# Altium footprint library Transformator.PcbLib: 59 footprints (part 4 of 4)
Each footprint in its own frame and in the unit in brackets; x right, y up, seen from the top. Pads: shape width x height; smd on the part's side, far side on the other; paste and mask are expansions set on the pad; w line width, h text height; cw(c..) or ccw(c..) is an arc to the next point about the centre after c.
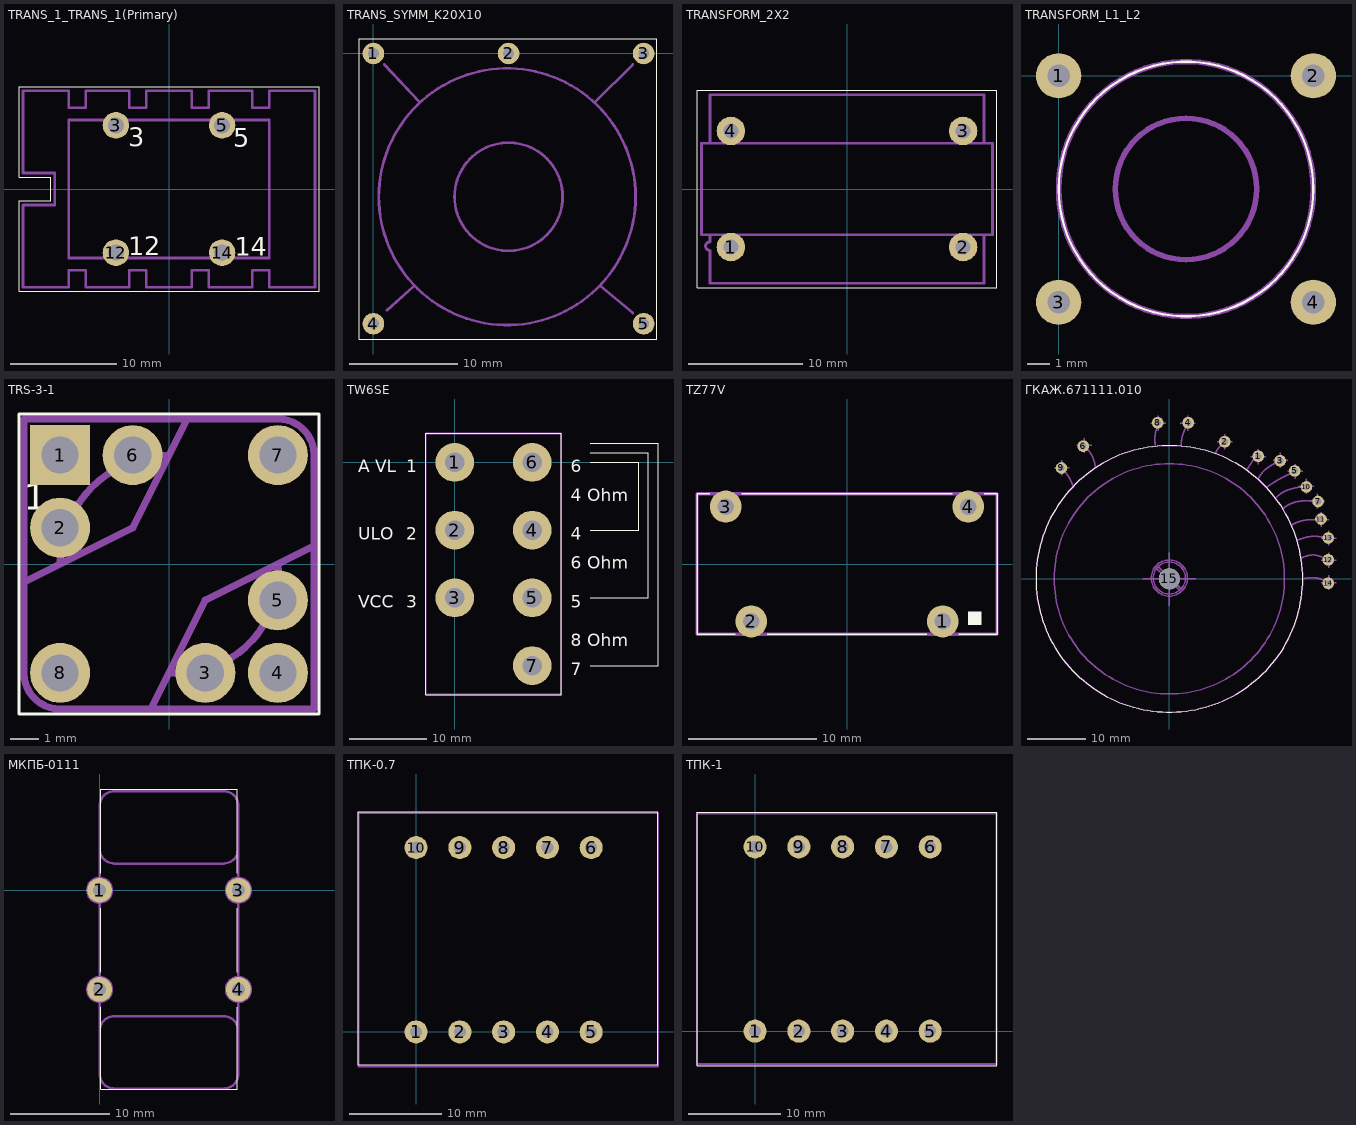
[diagram p3: the footprints below, top view; thin cyan lines are the x and y axes]

## TRANS_1_TRANS_1(Primary) [mm]
pads (4):
  round 2.5 hole 1.5: 3(-5,6) 5(5,6) 12(-5,-6) 14(5,-6)
Top Overlay:
  lines w0.1: -14.13,-9.63 14.13,-9.63 14.13,9.63 -14.13,9.63 -14.13,1.12 -11.13,1.12 -11.13,-1.12 -14.13,-1.12 -14.13,-9.63
  text "14" at 6.18,-6.3 h1.76
  text "12" at -3.83,-6.24 h1.76
  text "5" at 6.06,4 h1.76
  text "3" at -3.83,4.03 h1.76
Mechanical 1:
  lines w0.25: -13.75,-9.25 -13.75,-1.5 -10.75,-1.5 -10.75,1.5 -13.75,1.5 -13.75,9.25 -9.45,9.25 -9.45,7.65 -7.85,7.65 -7.85,9.25 -3.75,9.25 -3.75,7.65 -2.15,7.65 -2.15,9.25 2.15,9.25 2.15,7.65 3.75,7.65 3.75,9.25 7.85,9.25 7.85,7.65 9.45,7.65 9.45,9.25 13.75,9.25 13.75,-9.25 9.45,-9.25 9.45,-7.65 7.85,-7.65 7.85,-9.25 3.75,-9.25 3.75,-7.65 2.15,-7.65 2.15,-9.25 -2.15,-9.25 -2.15,-7.65 -3.75,-7.65 -3.75,-9.25 -7.85,-9.25 -7.85,-7.65 -9.45,-7.65 -9.45,-9.25 -13.75,-9.25 ; -9.45,-6.5 9.45,-6.5 9.45,6.5 -9.45,6.5 -9.45,-6.5

## TRANS_SYMM_K20X10 [mm]
pads (5):
  round 2 hole 1: 1(0,0) 2(12.5,0) 3(25,0) 4(0,-25) 5(25,-25)
Top Overlay:
  lines w0.1: -1.3,-26.41 26.2,-26.41 26.2,1.34 -1.3,1.34 -1.3,-26.41
Mechanical 1:
  lines w0.25: 1,-1 4.25,-4.5 ; 1.25,-23.75 3.75,-21.5 ; 20.5,-4.5 24,-1 ; 21,-21.5 24,-24 ; 0.5,-13.25 cw(c12.375,-13.25) 24.25,-13.25 cw(c12.375,-13.25) 0.5,-13.25 ; 7.5,-13.25 ccw(c12.5,-13.25) 17.5,-13.25 ccw(c12.5,-13.25) 7.5,-13.25

## TRANSFORM_2X2 [mm]
pads (4):
  round 2.5 hole 1.3: 1(-10.16,-5.08) 2(10.16,-5.08) 3(10.16,5.08) 4(-10.16,5.08)
Top Overlay:
  lines w0.1: -13.13,-8.63 13.13,-8.63 13.13,8.63 -13.13,8.63 -13.13,-8.63
Mechanical 1:
  lines w0.25: -12,-4 -12,-4.625 ccw(c-12,-5) -12,-5.375 -12,-8.25 12,-8.25 12,-4 ; -12,4 -12,8.25 12,8.25 12,4 ; -12.75,-4 12.75,-4 12.75,4 -12.75,4 -12.75,-4

## TRANSFORM_L1_L2 [mm]
pads (4):
  round 2 hole 1: 1(0,0) 2(11.25,0) 3(0,-10) 4(11.25,-10)
Top Overlay:
  lines w0.1: 0,-5 cw(c5.625,-5) 11.25,-5 cw(c5.625,-5) 0,-5
Mechanical 1:
  lines w0.25: 0,-5 cw(c5.625,-5) 11.25,-5 cw(c5.625,-5) 0,-5 ; 2.5,-5 cw(c5.625,-5) 8.75,-5 cw(c5.625,-5) 2.5,-5

## TRS-3-1 [mm]
pads (8):
  rect 2.1x2.1 hole 1.3: 1(-3.81,3.81)
  round 2.1 hole 1.3: 2(-3.81,1.27) 3(1.27,-3.81) 4(3.81,-3.81) 5(3.81,-1.27) 6(-1.27,3.81) 7(3.81,3.81) 8(-3.81,-3.81)
Top Overlay:
  lines w0.1: -5.25,-5.25 5.25,-5.25 5.25,5.25 -5.25,5.25 -5.25,-5.25
  text "1" at -5.08,1.905 h0.94
Mechanical 1:
  lines w0.25: -4.445,3.81 -3.175,3.81 ; -3.81,0 cw(c0,0) 0,3.81 ; -3.81,3.175 -3.81,4.445 ; 0,-3.81 ccw(c0.318,-0.318) 3.81,0 ; -5.08,-3.175 -5.08,5.08 3.175,5.08 ; -5.08,-3.175 -5.08,-3.81 ccw(c-3.81,-3.81) -3.81,-5.08 -3.175,-5.08 ; -5.08,-3.175 -5.08,-0.635 -1.27,1.27 0.635,5.08 3.175,5.08 ; -3.175,-5.08 5.08,-5.08 5.08,3.175 ; -3.175,-5.08 -0.635,-5.08 1.27,-1.27 5.08,0.635 5.08,3.175 ; 3.175,5.08 3.81,5.08 cw(c3.81,3.81) 5.08,3.81 5.08,3.175

## TW6SE [mm]
pads (7):
  round 5 hole 2.5: 1(0,0) 2(0,-8.75) 3(0,-17.5) 4(10,-8.75) 5(10,-17.5) 6(10,0) 7(10,-26.25)
Top Overlay:
  lines w0.1: 17.5,-26.25 26.25,-26.25 26.25,2.5 17.5,2.5 ; 17.5,-17.5 25,-17.5 25,1.25 17.5,1.25 ; 17.5,-8.75 23.75,-8.75 23.75,0 17.5,0 ; -3.75,-30 13.75,-30 13.75,3.75 -3.75,3.75 -3.75,-30
  text "8 Ohm" at 15,-23.75 h1.59
  text "6 Ohm" at 15,-13.75 h1.59
  text "4 Ohm" at 15,-5 h1.59
  text "A VL" at -12.5,-1.25 h1.59
  text "ULO" at -12.5,-10 h1.59
  text "VCC" at -12.5,-18.75 h1.59
  text "6" at 15,-1.25 h1.59
  text "4" at 15,-10 h1.59
  text "5" at 15,-18.75 h1.59
  text "7" at 15,-27.5 h1.59
  text "1" at -6.25,-1.25 h1.59
  text "2" at -6.25,-10 h1.59
  text "3" at -6.25,-18.75 h1.59
Mechanical 1:
  lines w0.25: -3.75,-30 13.75,-30 13.75,3.75 -3.75,3.75 -3.75,-30

## TZ77V [mm]
pads (4):
  round 2.5 hole 1.3: 1(7.5,-4.5) 2(-7.5,-4.5) 3(-9.5,4.5) 4(9.5,4.5)
Top Overlay:
  region: 9.5,-3.75 9.5,-4.75 10.5,-4.75 10.5,-3.75
  lines w0.1: -10.75,5.5 -11.75,5.5 -11.75,-5.5 -8.75,-5.5 ; -8.25,5.5 8.25,5.5 ; -6.25,-5.5 6.25,-5.5 ; 8.75,-5.5 11.75,-5.5 11.75,5.5 10.75,5.5
Mechanical 1:
  lines w0.25: 11.75,-5.5 -11.75,-5.5 -11.75,5.5 11.75,5.5 ; 11.75,-5.5 11.75,5.5 ; 11.75,-5.5 11.75,5.5

## ГКАЖ.671111.010 [mm]
pads (15):
  round 2 hole 1.1: 1(15.25,21) 2(9.5,23.5) 3(19,20.25) 4(3.25,26.75) 5(21.5,18.5) 6(-14.75,22.75) 7(25.5,13.25) 8(-2,26.75) 9(-18.5,19) 10(23.5,15.75) 11(26,10.25) 12(27.25,3.25) 13(27.25,7) 14(27.25,-0.75)
  round 3.6 hole 3.6 unplated: 15(0,0)
Top Overlay:
  lines w0.1: -22.859,-0.001 ccw(c0.001,-0.001) 22.861,-0.001 ccw(c0.001,-0.001) -22.859,-0.001
Mechanical 1:
  drawing of 2263 lines, arcs and shapes, not listed
  text "7" at 27.33,11.845 h1.75
  text "4" at 3.83,27.345 h1.75
  text "8" at -4.17,27.095 h1.75
  text "3" at 19.83,20.845 h1.75
  text "10" at 25.33,14.595 h1.75
  text "13" at 29.33,5.345 h1.75
  text "5" at 22.08,18.845 h1.75
  text "6" at -18.92,22.845 h1.75
  text "11" at 28.33,8.845 h1.75
  text "12" at 29.33,1.595 h1.75
  text "14" at 29.08,-2.155 h1.75
  text "1" at 15.83,21.345 h1.75
  text "2" at 9.83,24.095 h1.75
  text "9" at -12.42,26.345 h1.75

## МКПБ-0111 [mm]
pads (4):
  round 2.5 hole 1.3: 1(0,0) 2(0,-10) 3(14,0) 4(14,-10)
Top Overlay:
  lines w0.1: 0.12,-11.79 0.12,-20.04 13.87,-20.04 13.87,-11.79 ; 0.12,-8.29 0.12,-1.79 ; 0.12,1.71 0.12,10.21 13.87,10.21 13.87,1.71 ; 13.87,-8.29 13.87,-1.79
Mechanical 1:
  circle w0.25: c14,-10 r1.25
  circle w0.25: c0,-10 r1.25
  circle w0.25: c14,0 r1.25
  circle w0.25: c0,0 r1.25
  lines w0.25: 12.5,10 1.5,10 ccw(c1.5,8.5) 0,8.5 0,4.196 ; 12.503,10 cw(c12.5,8.5) 14,8.5 14,4.196 ; 0,-18.5 ccw(c1.5,-18.5) 1.5,-20 12.5,-20 ccw(c12.5,-18.5) 14,-18.5 ; 0,-18.5 0,4.196 ; 0,-18.5 0,-14.197 cw(c1.5,-14.197) 1.5,-12.697 7,-12.697 12.5,-12.697 cw(c12.5,-14.197) 14,-14.197 14,-18.5 ; 0,4.196 ccw(c1.5,4.196) 1.5,2.696 7,2.696 12.5,2.696 ccw(c12.5,4.196) 14,4.196 ; 14,-18.5 14,4.196

## ТПК-0.7 [mm]
pads (10):
  round 2.5 hole 1.3: 1(0,0) 2(4.75,0) 3(9.5,0) 4(14.25,0) 5(19,0) 6(19,20) 7(14.25,20) 8(9.5,20) 9(4.75,20) 10(0,20)
Top Overlay:
  lines w0.1: -6.3,-3.59 26.2,-3.59 26.2,23.91 -6.3,23.91 -6.3,-3.59
Mechanical 1:
  lines w0.254: -6.25,-3.75 26.25,-3.75 26.25,23.75 -6.25,23.75 -6.25,-3.75

## ТПК-1 [mm]
pads (10):
  round 2.5 hole 1.3: 1(0,0) 2(4.75,0) 3(9.5,0) 4(14.25,0) 5(19,0) 6(19,20) 7(14.25,20) 8(9.5,20) 9(4.75,20) 10(0,20)
Top Overlay:
  lines w0.1: -6.25,-3.75 26.25,-3.75 26.25,23.75 -6.25,23.75 -6.25,-3.75
Mechanical 1:
  lines w0.25: -6.3,-3.59 26.2,-3.59 26.2,23.66 -6.3,23.66 -6.3,-3.59